# Altium footprint library HEADER_0.8mm_2x12P_G.PcbLib: 1 footprints
Each footprint in its own frame and in the unit in brackets; x right, y up, seen from the top. Pads: shape width x height; smd on the part's side, far side on the other; paste and mask are expansions set on the pad; w line width, h text height; cw(c..) or ccw(c..) is an arc to the next point about the centre after c.
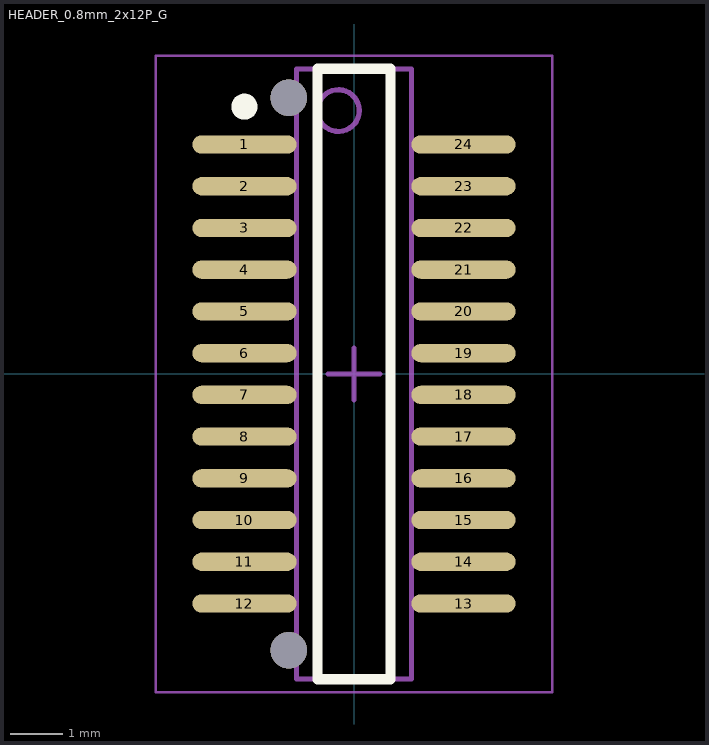
[diagram p0: the footprint, top view; thin cyan lines are the x and y axes]

## HEADER_0.8mm_2x12P_G [mm] "0.8间距2x12P公座，SMD"
height 2
pads (24):
  oval 2x0.35 smd: 1(-2.1,4.4) 2(-2.1,3.6) 3(-2.1,2.8) 4(-2.1,2) 5(-2.1,1.2) 6(-2.1,0.4) 7(-2.1,-0.4) 8(-2.1,-1.2) 9(-2.1,-2) 10(-2.1,-2.8) 11(-2.1,-3.6) 12(-2.1,-4.4) 13(2.1,-4.4) 14(2.1,-3.6) 15(2.1,-2.8) 16(2.1,-2) 17(2.1,-1.2) 18(2.1,-0.4) 19(2.1,0.4) 20(2.1,1.2) 21(2.1,2) 22(2.1,2.8) 23(2.1,3.6) 24(2.1,4.4)
via -1.25,-5.3 diameter 0.7 hole 0.7
via -1.25,5.3 diameter 0.7 hole 0.7
Top Overlay:
  circle w0.25: c-2.1,5.125 r0.125
  lines w0.2: -0.7,-5.85 0.7,-5.85 0.7,5.85 -0.7,5.85 -0.7,-5.85
Mechanical 13:
  circle w0.1: c-0.3,5.05 r0.4
  lines w0.1: -1.1,-5.85 1.1,-5.85 1.1,5.85 -1.1,5.85 -1.1,-5.85
Mechanical 15:
  lines w0.05: -3.8,-6.1 3.8,-6.1 3.8,6.1 -3.8,6.1 -3.8,-6.1
  lines w0.1: -0.5,0 0.5,0 ; 0,-0.5 0,0.5
3D body: height 2, standoff 0.1, extent -1.1,-5.85 1.1,5.85